# Altium footprint library Audio IO Switch - PcbLib.PcbLib: 3 footprints
Each footprint in its own frame and in the unit in brackets; x right, y up, seen from the top. Pads: shape width x height; smd on the part's side, far side on the other; paste and mask are expansions set on the pad; w line width, h text height; cw(c..) or ccw(c..) is an arc to the next point about the centre after c.
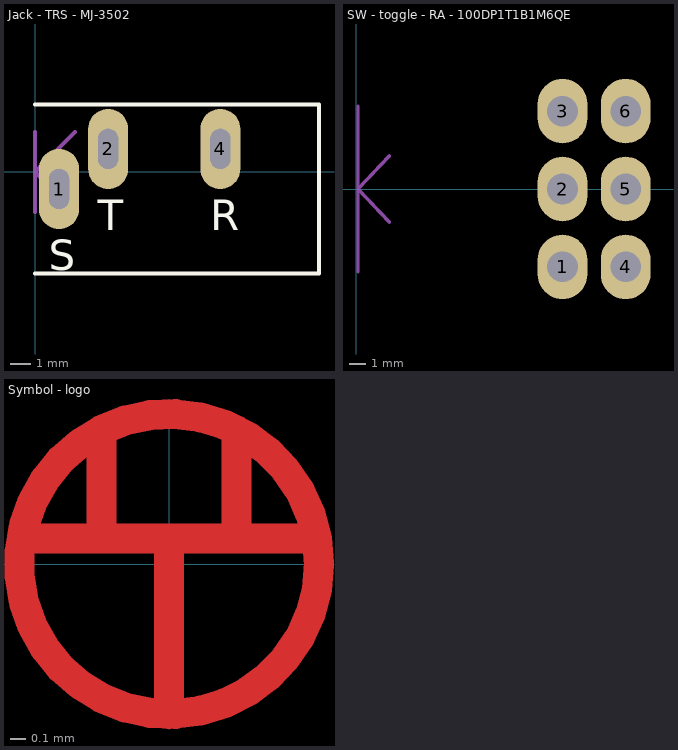
[diagram p0: the footprints below, top view; thin cyan lines are the x and y axes]

## Jack - TRS - MJ-3502 [mm] "from CP-3502MJ-ND"
pads (3):
  oval 2x4 hole 1 slot 2 at 90 deg mask+0.05: 1(1.2,-0.85) 2(3.65,1.15) 4(9.25,1.15)
Top Overlay:
  lines w0.2: 0,-5.075 14.175,-5.075 14.175,3.375 0,3.375
  text "T" at 3.142,-2.914 h1.52
  text "R" at 8.742,-2.914 h1.52
  text "S" at 0.692,-4.914 h1.52
Bottom Overlay:
  text "S" at 1.708,-4.914 h1.52
  text "R" at 9.758,-2.914 h1.52
  text "T" at 4.158,-2.914 h1.52
Mechanical 3:
  lines w0.2: 0,-2 0,2 ; 2,-2 0,0 2,2
3D body "Switchcraft - TRS - 35RAPC2BV4.step": height 12.3, standoff -3.2, extent -14.199,-4.9 14,3.993

## SW - toggle - RA - 100DP1T1B1M6QE [mm] "from 100DP1T1B1M6QE-ND"
pads (6):
  oval 3x3.9 hole 1.85 mask+0.05: 1(12.446,-4.699) 2(12.446,0) 3(12.446,4.699) 4(16.256,-4.699) 5(16.256,0) 6(16.256,4.699)
Mechanical 3:
  lines w0.2: 0.1,-5 0.1,5 ; 2,-2 0.1,0 2,2
3D body "E-Switch - 100DPXT1B1M6xE.stp": height 11.44, standoff -3.16, extent -19.558,-6.35 16.9,6.35

## Symbol - logo [mm]
Top Layer:
  circle w0.2: c0,0 r1
  lines w0.2: -0.98,0.17 0.98,0.17 ; -0.45,0.173 -0.45,0.89 ; 0,-1 0,0.17 ; 0.45,0.173 0.45,0.89